# EAGLE library part MIDAS-LCD20X4 (library MIDAS-FDCC2004C)
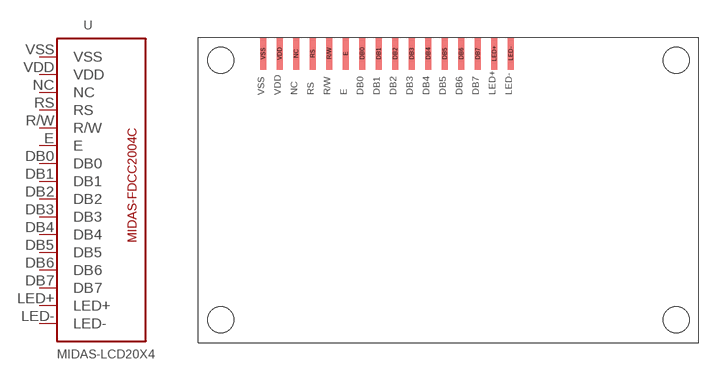
[diagram p1: symbol with the pads of LCD-20X4; footprint LCD-20X4]

Designator prefix -

## MIDAS-LCD20X4MIDAS-4HOLE-20X4  [LCD-20X4]
DB0  DB0
DB1  DB1
DB2  DB2
DB3  DB3
DB4  DB4
DB5  DB5
DB6  DB6
DB7  DB7
E  E  in
LED+  LED+  pwr
LED-  LED-  pwr
NC  NC  nc
R/W  R/W  in
RS  RS  in
VDD  VDD  pwr
VSS  VSS  pwr

## Footprint LCD-20X4 (pad centres in mm)
smd 0.9 x 4.978: DB0 25.24,44.511; DB1 27.78,44.511; DB2 30.32,44.511; DB3 32.86,44.511; DB4 35.4,44.511; DB5 37.94,44.511; DB6 40.48,44.511; DB7 43.02,44.511; E 22.7,44.511; LED+ 45.56,44.511; LED- 48.1,44.511; NC 15.08,44.511; R/W 20.16,44.511; RS 17.62,44.511; VDD 12.54,44.511; VSS 10,44.511
hole 4 at 3.5,3.5
hole 4 at 73.5,43.5
hole 4 at 3.5,43.5
hole 4 at 73.5,3.5